# Altium integrated library Inductor.IntLib: 2 symbols
Pins are listed as number, name and electrical type; pins without a type are passive.

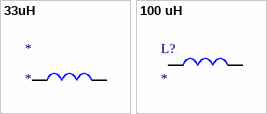
[diagram p0: symbols 33uH to 100 uH]

## 33uH
designator *
DR125
footprint DR125
pins: 1, 2

## 100 uH
designator L?
L1206
footprint L1206
pins: 1, 2